# Altium footprint library Generic Connector.PcbLib: 143 footprints (part 9 of 9)
Each footprint in its own frame and in the unit in brackets; x right, y up, seen from the top. Pads: shape width x height; smd on the part's side, far side on the other; paste and mask are expansions set on the pad; w line width, h text height; cw(c..) or ccw(c..) is an arc to the next point about the centre after c.
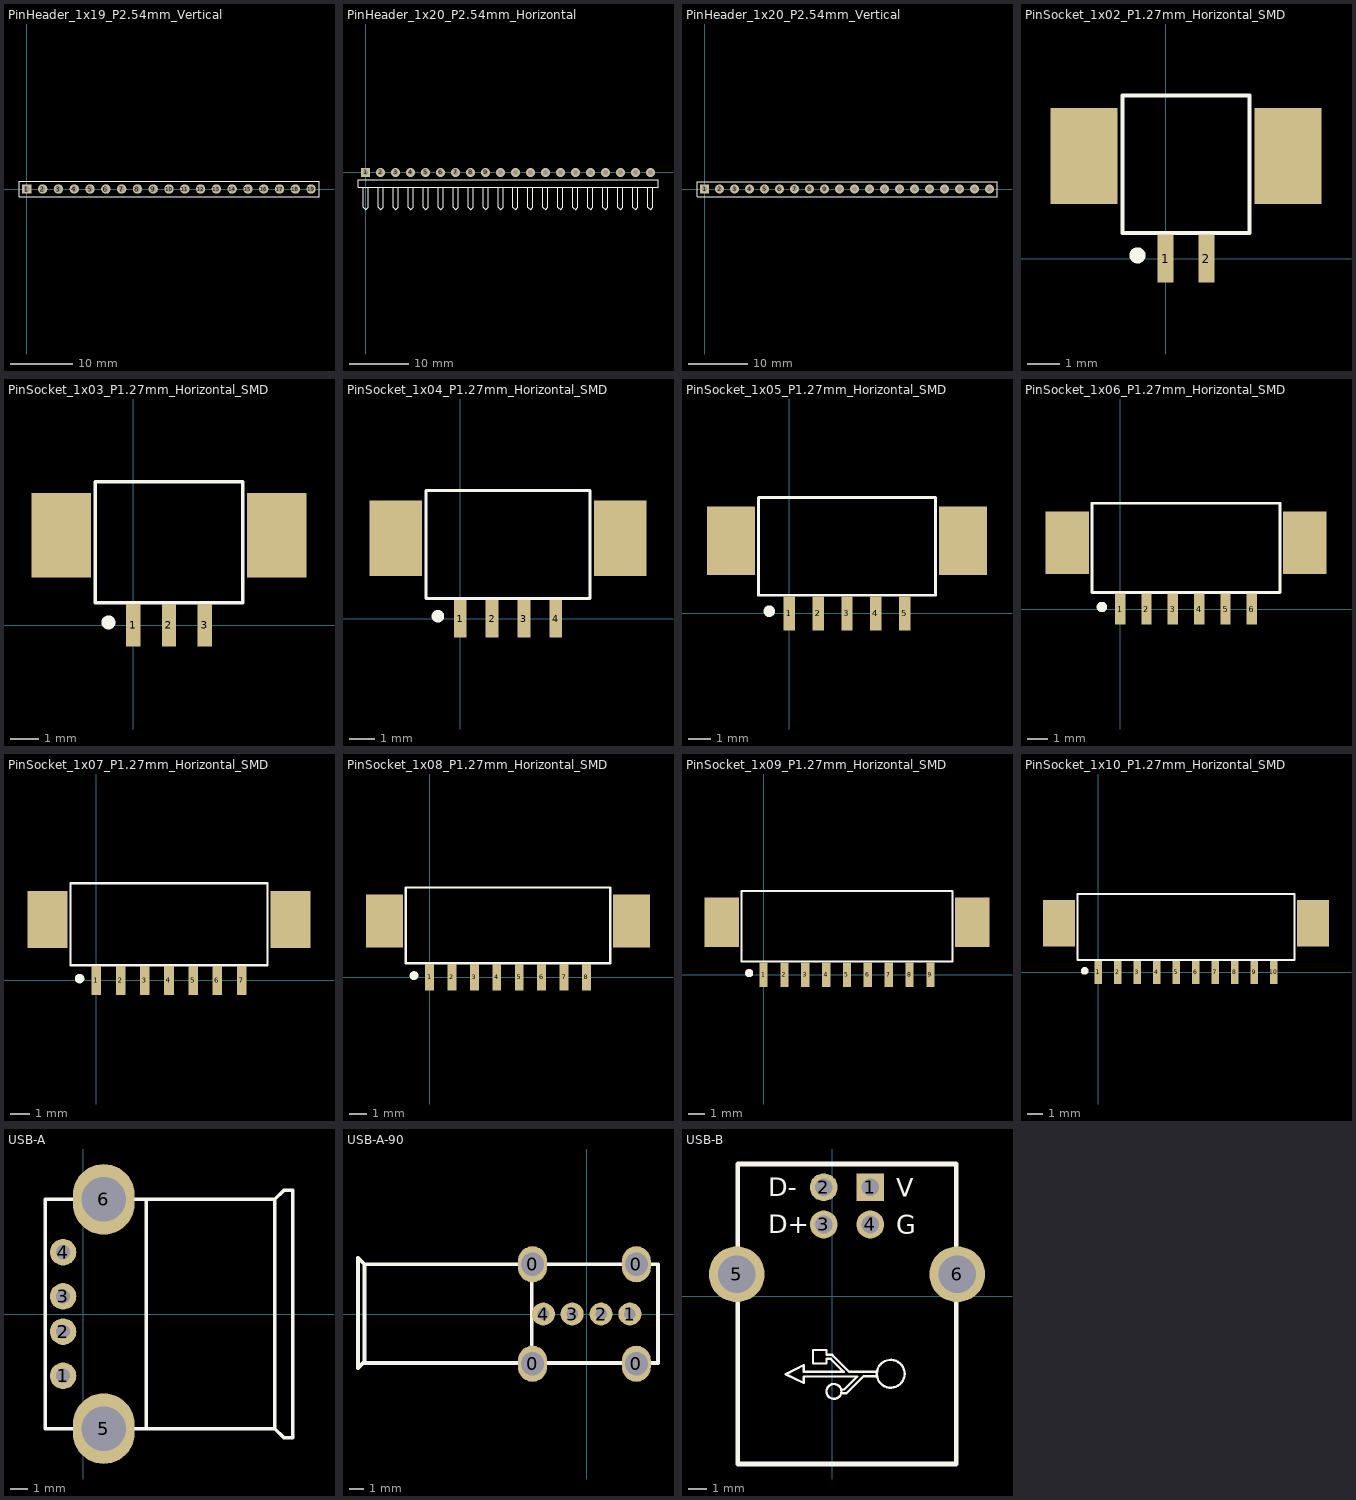
[diagram p8: the footprints below, top view; thin cyan lines are the x and y axes]

## PinHeader_1x19_P2.54mm_Vertical [mm] "Connector; Header; 19 Position"
pads (19):
  rect 1.5x1.5 hole 0.9: 1(0,0)
  round 1.5 hole 0.9: 2(2.54,0) 3(5.08,0) 4(7.62,0) 5(10.16,0) 6(12.7,0) 7(15.24,0) 8(17.78,0) 9(20.32,0) 10(22.86,0) 11(25.4,0) 12(27.94,0) 13(30.48,0) 14(33.02,0) 15(35.56,0) 16(38.1,0) 17(40.64,0) 18(43.18,0) 19(45.72,0)
Top Overlay:
  lines w0.2: 37.465,1.27 37.677,1.27 ; -1.27,-1.27 -1.27,1.27 0.635,1.27 46.99,1.27 46.99,-1.27 -1.27,-1.27

## PinHeader_1x20_P2.54mm_Horizontal [mm] "Connector; Header; 20 Position; Right Angle"
pads (20):
  rect 1.5x1.5 hole 0.9: 1(0,0)
  round 1.5 hole 0.9: 2(2.54,0) 3(5.08,0) 4(7.62,0) 5(10.16,0) 6(12.7,0) 7(15.24,0) 8(17.78,0) 9(20.32,0) 10(22.86,0) 11(25.4,0) 12(27.94,0) 13(30.48,0) 14(33.02,0) 15(35.56,0) 16(38.1,0) 17(40.64,0) 18(43.18,0) 19(45.72,0) 20(48.26,0)
Top Overlay:
  lines w0.2: -0.423,-2.54 -0.423,-5.927 0,-6.35 0.423,-5.927 0.423,-2.54 ; 2.117,-2.54 2.117,-5.927 2.54,-6.35 2.963,-5.927 2.963,-2.54 ; 4.657,-2.54 4.657,-5.927 5.08,-6.35 5.503,-5.927 5.503,-2.54 ; 7.197,-2.54 7.197,-5.927 7.62,-6.35 8.043,-5.927 8.043,-2.54 ; 9.737,-2.54 9.737,-5.927 10.16,-6.35 10.583,-5.927 10.583,-2.54 ; 12.277,-2.54 12.277,-5.927 12.7,-6.35 13.123,-5.927 13.123,-2.54 ; 14.817,-2.54 14.817,-5.927 15.24,-6.35 15.663,-5.927 15.663,-2.54 ; 17.357,-2.54 17.357,-5.927 17.78,-6.35 18.203,-5.927 18.203,-2.54 ; 19.897,-2.54 19.897,-5.927 20.32,-6.35 20.743,-5.927 20.743,-2.54 ; 22.437,-2.54 22.437,-5.927 22.86,-6.35 23.283,-5.927 23.283,-2.54 ; 24.977,-2.54 24.977,-5.927 25.4,-6.35 25.823,-5.927 25.823,-2.54 ; 27.517,-2.54 27.517,-5.927 27.94,-6.35 28.363,-5.927 28.363,-2.54 ; 30.057,-2.54 30.057,-5.927 30.48,-6.35 30.903,-5.927 30.903,-2.54 ; 32.597,-2.54 32.597,-5.927 33.02,-6.35 33.443,-5.927 33.443,-2.54 ; 35.137,-2.54 35.137,-5.927 35.56,-6.35 35.983,-5.927 35.983,-2.54 ; 37.677,-2.54 37.677,-5.927 38.1,-6.35 38.523,-5.927 38.523,-2.54 ; 40.217,-2.54 40.217,-5.927 40.64,-6.35 41.063,-5.927 41.063,-2.54 ; 42.757,-2.54 42.757,-5.927 43.18,-6.35 43.603,-5.927 43.603,-2.54 ; 45.297,-2.54 45.297,-5.927 45.72,-6.35 46.143,-5.927 46.143,-2.54 ; 47.837,-2.54 47.837,-5.927 48.26,-6.35 48.683,-5.927 48.683,-2.54 ; -1.27,-2.54 49.53,-2.54 49.53,-1.27 0.635,-1.27 -1.27,-1.27 -1.27,-2.54

## PinHeader_1x20_P2.54mm_Vertical [mm] "Connector; Header; 20 Position"
pads (20):
  rect 1.5x1.5 hole 0.9: 1(0,0)
  round 1.5 hole 0.9: 2(2.54,0) 3(5.08,0) 4(7.62,0) 5(10.16,0) 6(12.7,0) 7(15.24,0) 8(17.78,0) 9(20.32,0) 10(22.86,0) 11(25.4,0) 12(27.94,0) 13(30.48,0) 14(33.02,0) 15(35.56,0) 16(38.1,0) 17(40.64,0) 18(43.18,0) 19(45.72,0) 20(48.26,0)
Top Overlay:
  lines w0.2: -1.27,-1.27 49.53,-1.27 49.53,1.27 0.635,1.27 -1.27,1.27 -1.27,-1.27

## PinSocket_1x02_P1.27mm_Horizontal_SMD [mm]
pads (4):
  rect 0.5x1.5 smd: 1(0,0) 2(1.27,0)
  rect 2.1x3 smd: ""(-2.555,3.2) ""(3.825,3.2)
Top Overlay:
  circle w0.25: c-0.88,0.1 r0.125
  lines w0.127: -1.355,0.8 -1.355,5.1 2.625,5.1 2.625,0.8 -1.355,0.8

## PinSocket_1x03_P1.27mm_Horizontal_SMD [mm]
pads (5):
  rect 0.5x1.5 smd: 1(0,0) 2(1.27,0) 3(2.54,0)
  rect 2.1x3 smd: ""(-2.555,3.2) ""(5.095,3.2)
Top Overlay:
  circle w0.25: c-0.88,0.1 r0.125
  lines w0.127: -1.355,0.8 3.895,0.8 3.895,5.1 -1.355,5.1 -1.355,0.8

## PinSocket_1x04_P1.27mm_Horizontal_SMD [mm]
pads (6):
  rect 0.5x1.5 smd: 1(0,0) 2(1.27,0) 3(2.54,0) 4(3.81,0)
  rect 2.1x3 smd: ""(-2.555,3.2) ""(6.365,3.2)
Top Overlay:
  circle w0.25: c-0.88,0.1 r0.125
  lines w0.127: -1.355,0.8 5.165,0.8 5.165,5.1 -1.355,5.1 -1.355,0.8

## PinSocket_1x05_P1.27mm_Horizontal_SMD [mm]
pads (7):
  rect 0.5x1.5 smd: 1(0,0) 2(1.27,0) 3(2.54,0) 4(3.81,0) 5(5.08,0)
  rect 2.1x3 smd: ""(-2.555,3.2) ""(7.635,3.2)
Top Overlay:
  circle w0.25: c-0.88,0.1 r0.125
  lines w0.127: -1.355,0.8 6.435,0.8 6.435,5.1 -1.355,5.1 -1.355,0.8

## PinSocket_1x06_P1.27mm_Horizontal_SMD [mm]
pads (8):
  rect 0.5x1.5 smd: 1(0,0) 2(1.27,0) 3(2.54,0) 4(3.81,0) 5(5.08,0) 6(6.35,0)
  rect 2.1x3 smd: ""(-2.555,3.2) ""(8.905,3.2)
Top Overlay:
  circle w0.25: c-0.88,0.1 r0.125
  lines w0.127: -1.355,0.8 -1.355,5.1 7.705,5.1 7.705,0.8 -1.355,0.8

## PinSocket_1x07_P1.27mm_Horizontal_SMD [mm]
pads (9):
  rect 0.5x1.5 smd: 1(0,0) 2(1.27,0) 3(2.54,0) 4(3.81,0) 5(5.08,0) 6(6.35,0) 7(7.62,0)
  rect 2.1x3 smd: ""(-2.555,3.2) ""(10.175,3.2)
Top Overlay:
  circle w0.25: c-0.88,0.1 r0.125
  lines w0.127: -1.355,0.8 -1.355,5.1 8.975,5.1 8.975,0.8 -1.355,0.8

## PinSocket_1x08_P1.27mm_Horizontal_SMD [mm]
pads (10):
  rect 0.5x1.5 smd: 1(0,0) 2(1.27,0) 3(2.54,0) 4(3.81,0) 5(5.08,0) 6(6.35,0) 7(7.62,0) 8(8.89,0)
  rect 2.1x3 smd: ""(-2.555,3.2) ""(11.445,3.2)
Top Overlay:
  circle w0.25: c-0.88,0.1 r0.125
  lines w0.127: -1.355,0.8 10.245,0.8 10.245,5.1 -1.355,5.1 -1.355,0.8

## PinSocket_1x09_P1.27mm_Horizontal_SMD [mm]
pads (11):
  rect 0.5x1.5 smd: 1(0,0) 2(1.27,0) 3(2.54,0) 4(3.81,0) 5(5.08,0) 6(6.35,0) 7(7.62,0) 8(8.89,0) 9(10.16,0)
  rect 2.1x3 smd: ""(-2.555,3.2) ""(12.715,3.2)
Top Overlay:
  circle w0.25: c-0.88,0.1 r0.125
  lines w0.127: -1.355,0.8 -1.355,5.1 11.515,5.1 11.515,0.8 -1.355,0.8

## PinSocket_1x10_P1.27mm_Horizontal_SMD [mm]
pads (12):
  rect 0.5x1.5 smd: 1(0,0) 2(1.27,0) 3(2.54,0) 4(3.81,0) 5(5.08,0) 6(6.35,0) 7(7.62,0) 8(8.89,0) 9(10.16,0) 10(11.43,0)
  rect 2.1x3 smd: ""(-2.555,3.2) ""(13.985,3.2)
Top Overlay:
  circle w0.25: c-0.88,0.1 r0.125
  lines w0.127: -1.355,0.8 -1.355,5.1 12.785,5.1 12.785,0.8 -1.355,0.8

## USB-A [mm]
pads (6):
  round 1.5 hole 0.8: 1(-1.153,-3.5) 2(-1.153,-1) 3(-1.153,1) 4(-1.153,3.5)
  oval 3.5x4 hole 2.5: 5(1.147,-6.5) 6(1.147,6.5)
Top Overlay:
  lines w0.2: 3.553,-6.5 3.553,6.5 ; 10.847,-6.5 11.347,-7 11.847,-7 11.847,7 11.347,7 10.847,6.5 ; 10.847,-6.5 10.847,6.5 ; 10.847,-6.5 -2.153,-6.5 -2.153,6.5 10.847,6.5

## USB-A-90 [mm]
pads (8):
  oval 2x2.5 hole 1.6: 0(-3.75,-3.45) 0(3.45,-3.45) 0(3.45,3.45)
  oval 2x2.5 hole 1.6 paste+0 mask+0.102: 0(-3.75,3.45)
  round 1.6 hole 0.8: 1(3,0) 2(1,0) 3(-1,0) 4(-3,0)
Top Overlay:
  lines w0.254: -3.8,3.45 -3.8,-3.3 -3.7,-3.4 ; -15.4,-3.4 4.95,-3.4 4.95,3.45 -15.4,3.45 ; -15.4,-3.4 -15.4,3.45 ; -15.4,-3.4 -15.5,-3.4 -15.85,-3.75 -15.85,3.9 -15.4,3.45

## USB-B [mil]
pads (6):
  rect 60x60 hole 38: 1(82,234.48)
  round 60 hole 38: 2(-18,234.48) 3(-18,154.48) 4(82,154.48)
  round 120 hole 80: 5(-205,47.48) 6(269,47.48)
Top Overlay:
  circle w5: c126,-166.52 r30
  circle w5: c4,-204.52 r16
  lines w5: 19,-208.52 31,-208.52 68,-171.52 97,-171.52 ; 19,-200.52 26,-200.52 54,-172.52 -61,-172.52 -61,-186.52 -100,-167.52 -61,-147.52 -61,-162.52 25,-162.52 -3,-134.52 -12,-134.52 -12,-144.52 -41,-144.52 -41,-115.52 -12,-115.52 -12,-125.52 0,-125.52 37,-162.52 97,-162.52
  lines w10: -203,-360.52 267,-360.52 267,44.48 267,284.48 -203,284.48 -203,44.48 -203,-360.52
  text "D+" at -137.01,135.55 h40
  text "D-" at -137.01,215.55 h40
  text "G" at 137.72,134.37 h40
  text "V" at 137.72,214.37 h40